# EAGLE library part AT28C64B (library dooba)
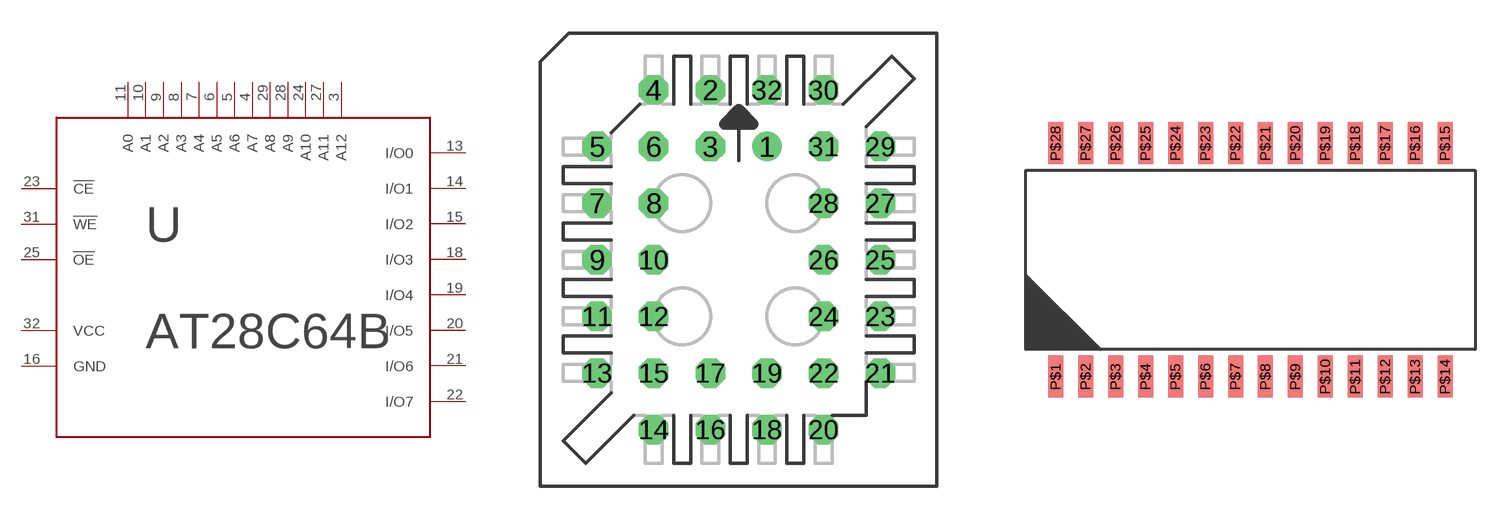
[diagram p53: symbol with the pads of PLCC-S32--SOCKET; footprints PLCC-S32--SOCKET, SOIC28]

Designator prefix U

## AT28C64BPLCC  [PLCC-S32--SOCKET]
3  A12
4  A7
5  A6
6  A5
7  A4
8  A3
9  A2
10  A1
11  A0
13  I/O0
14  I/O1
15  I/O2
16  GND
18  I/O3
19  I/O4
20  I/O5
21  I/O6
22  I/O7
23  !CE
24  A10
25  !OE
27  A11
28  A9
29  A8
31  !WE
32  VCC

## AT28C64BSOIC  [SOIC28]
P$2  A12
P$3  A7
P$4  A6
P$5  A5
P$6  A4
P$7  A3
P$8  A2
P$9  A1
P$10  A0
P$11  I/O0
P$12  I/O1
P$13  I/O2
P$14  GND
P$15  I/O3
P$16  I/O4
P$17  I/O5
P$18  I/O6
P$19  I/O7
P$20  !CE
P$21  A10
P$22  !OE
P$23  A11
P$24  A9
P$25  A8
P$27  !WE
P$28  VCC

## Footprint PLCC-S32--SOCKET (pad centres in mm)
Plastic Leaded Chip Carrier Socket
drill 0.813: 1 1.27,5.08
drill 0.813 octagon: 2 -1.27,7.62; 3 -1.27,5.08; 4 -3.81,7.62; 5 -6.35,5.08; 6 -3.81,5.08; 7 -6.35,2.54; 8 -3.81,2.54; 9 -6.35,0; 10 -3.81,0; 11 -6.35,-2.54; 12 -3.81,-2.54; 13 -6.35,-5.08; 14 -3.81,-7.62; 15 -3.81,-5.08; 16 -1.27,-7.62; 17 -1.27,-5.08; 18 1.27,-7.62; 19 1.27,-5.08; 20 3.81,-7.62; 21 6.35,-5.08; 22 3.81,-5.08; 23 6.35,-2.54; 24 3.81,-2.54; 25 6.35,0; 26 3.81,0; 27 6.35,2.54; 28 3.81,2.54; 29 6.35,5.08; 30 3.81,7.62; 31 3.81,5.08; 32 1.27,7.62

## Footprint SOIC28 (pad centres in mm)
smd 0.635 x 1.778: P$1 -8.255,-4.953; P$2 -6.985,-4.953; P$3 -5.715,-4.953; P$4 -4.445,-4.953; P$5 -3.175,-4.953; P$6 -1.905,-4.953; P$7 -0.635,-4.953; P$8 0.635,-4.953; P$9 1.905,-4.953; P$10 3.175,-4.953; P$11 4.445,-4.953; P$12 5.715,-4.953; P$13 6.985,-4.953; P$14 8.255,-4.953; P$15 8.255,4.953; P$16 6.985,4.953; P$17 5.715,4.953; P$18 4.445,4.953; P$19 3.175,4.953; P$20 1.905,4.953; P$21 0.635,4.953; P$22 -0.635,4.953; P$23 -1.905,4.953; P$24 -3.175,4.953; P$25 -4.445,4.953; P$26 -5.715,4.953; P$27 -6.985,4.953; P$28 -8.255,4.953